# EAGLE library part 74LVC-LVCH2T45 (library pandasat)
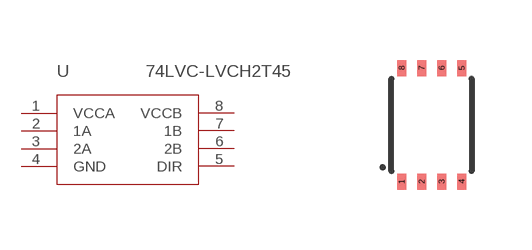
[diagram p5: symbol with the pads of VSSOP-8; footprint VSSOP-8]

Designator prefix U

## 74LVC-LVCH2T45  [VSSOP-8]
1  VCCA
2  1A
3  2A
4  GND
5  DIR
6  2B
7  1B
8  VCCB

## Footprint VSSOP-8 (pad centres in mm)
smd 0.22 x 0.4: 1 -0.75,-1.42; 2 -0.25,-1.42; 3 0.25,-1.42; 4 0.75,-1.42; 5 0.75,1.42; 6 0.25,1.42; 7 -0.25,1.42; 8 -0.75,1.42